# EAGLE library part PIC18F26K22 (library carrilib)
Microcontroller, 8 bit Manufacturer: Microchip Part Number: PIC18F26K22
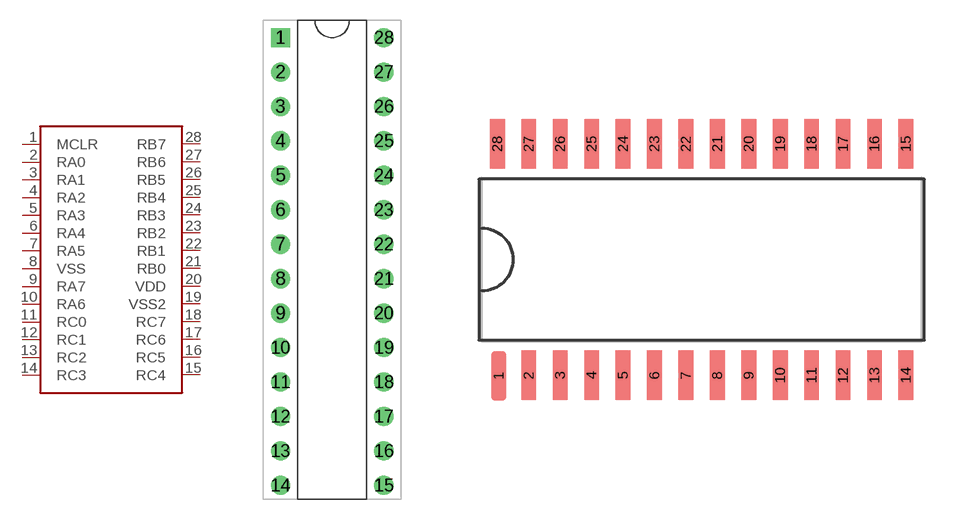
[diagram p16: symbol with the pads of DIP28; footprints DIP28, SO28W]

Designator prefix U

## PIC18F26K22DIP28  [DIP28]
1  MCLR
2  RA0
3  RA1
4  RA2
5  RA3
6  RA4
7  RA5
8  VSS
9  RA7
10  RA6
11  RC0
12  RC1
13  RC2
14  RC3
15  RC4
16  RC5
17  RC6
18  RC7
19  VSS2
20  VDD
21  RB0
22  RB1
23  RB2
24  RB3
25  RB4
26  RB5
27  RB6
28  RB7

## PIC18F26K22SO28  [SO28W]
Pads as for DIP28

## Footprint DIP28 (pad centres in mm)
drill 0.9 square: 1 -3.81,16.51
drill 0.9: 2 -3.81,13.97; 3 -3.81,11.43; 4 -3.81,8.89; 5 -3.81,6.35; 6 -3.81,3.81; 7 -3.81,1.27; 8 -3.81,-1.27; 9 -3.81,-3.81; 10 -3.81,-6.35; 11 -3.81,-8.89; 12 -3.81,-11.43; 13 -3.81,-13.97; 14 -3.81,-16.51; 15 3.81,-16.51; 16 3.81,-13.97; 17 3.81,-11.43; 18 3.81,-8.89; 19 3.81,-6.35; 20 3.81,-3.81; 21 3.81,-1.27; 22 3.81,1.27; 23 3.81,3.81; 24 3.81,6.35; 25 3.81,8.89; 26 3.81,11.43; 27 3.81,13.97; 28 3.81,16.51

## Footprint SO28W (pad centres in mm)
smd 0.6 x 2: 1 -8.2,-4.7; 2 -6.985,-4.68; 3 -5.715,-4.68; 4 -4.445,-4.68; 5 -3.175,-4.68; 6 -1.905,-4.68; 7 -0.635,-4.68; 8 0.635,-4.68; 9 1.905,-4.68; 10 3.175,-4.68; 11 4.445,-4.68; 12 5.715,-4.68; 13 6.985,-4.68; 14 8.255,-4.68; 15 8.255,4.68; 16 6.985,4.68; 17 5.715,4.68; 18 4.445,4.68; 19 3.175,4.68; 20 1.905,4.68; 21 0.635,4.68; 22 -0.635,4.68; 23 -1.905,4.68; 24 -3.175,4.68; 25 -4.445,4.68; 26 -5.715,4.68; 27 -6.985,4.68; 28 -8.255,4.68